# Altium footprint library MCAS648075150U.PcbLib: 1 footprints
Each footprint in its own frame and in the unit in brackets; x right, y up, seen from the top. Pads: shape width x height; smd on the part's side, far side on the other; paste and mask are expansions set on the pad; w line width, h text height; cw(c..) or ccw(c..) is an arc to the next point about the centre after c.
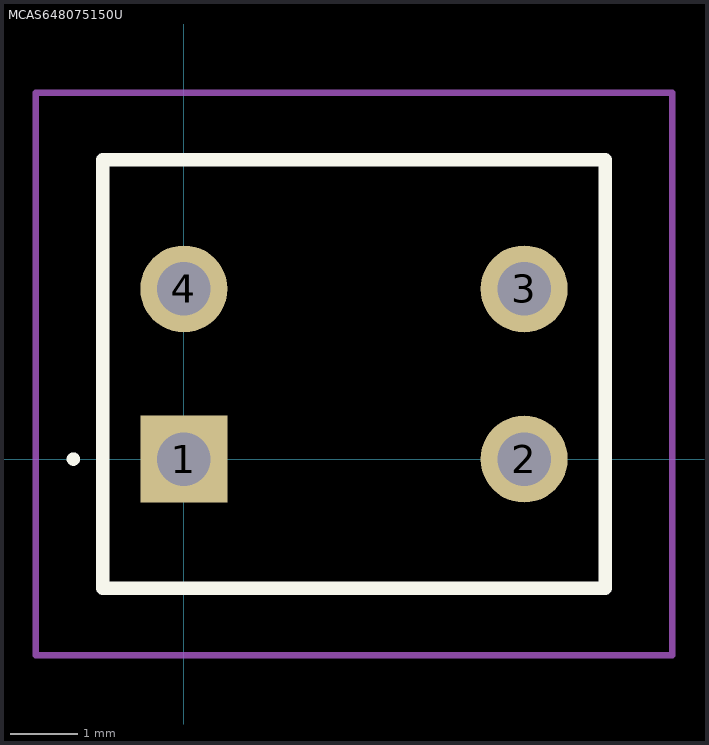
[diagram p0: the footprint, top view; thin cyan lines are the x and y axes]

## MCAS648075150U [mm]
pads (4):
  rect 1.3x1.3 hole 0.8: 1(0,0)
  round 1.3 hole 0.8: 2(5.08,0) 3(5.08,2.54) 4(0,2.54)
Top Overlay:
  lines w0.1: -1.7,0 cw(c-1.65,0) -1.6,0 ; -1.7,0 -1.7,0 ; -1.7,0 ccw(c-1.65,0) -1.6,0 ; -1.6,0 -1.6,0
  lines w0.2: -1.21,-1.93 6.29,-1.93 6.29,4.47 -1.21,4.47 -1.21,-1.93
Mechanical 15:
  lines w0.1: -1.21,-1.93 6.29,-1.93 6.29,4.47 -1.21,4.47 -1.21,-1.93
Mechanical 20:
  lines w0.1: -2.21,-2.93 7.29,-2.93 7.29,5.47 -2.21,5.47 -2.21,-2.93